# Altium schematic symbol library LMR50410-Q1.SchLib: 1 symbol
Pins are listed as number, name and electrical type; pins without a type are passive.

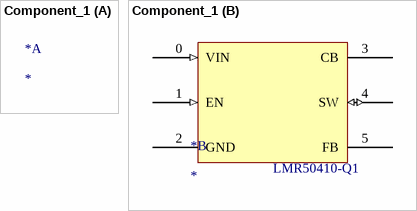
[diagram p0: symbol Component_1]

## Component_1
designator *
part B pins: 0 VIN (in), 1 EN (in), 2 GND, 3 CB, 4 SW (io), 5 FB
part B text: LMR50410-Q1